# Altium footprint library pcie_power.PcbLib: 1 footprints
Each footprint in its own frame and in the unit in brackets; x right, y up, seen from the top. Pads: shape width x height; smd on the part's side, far side on the other; paste and mask are expansions set on the pad; w line width, h text height; cw(c..) or ccw(c..) is an arc to the next point about the centre after c.
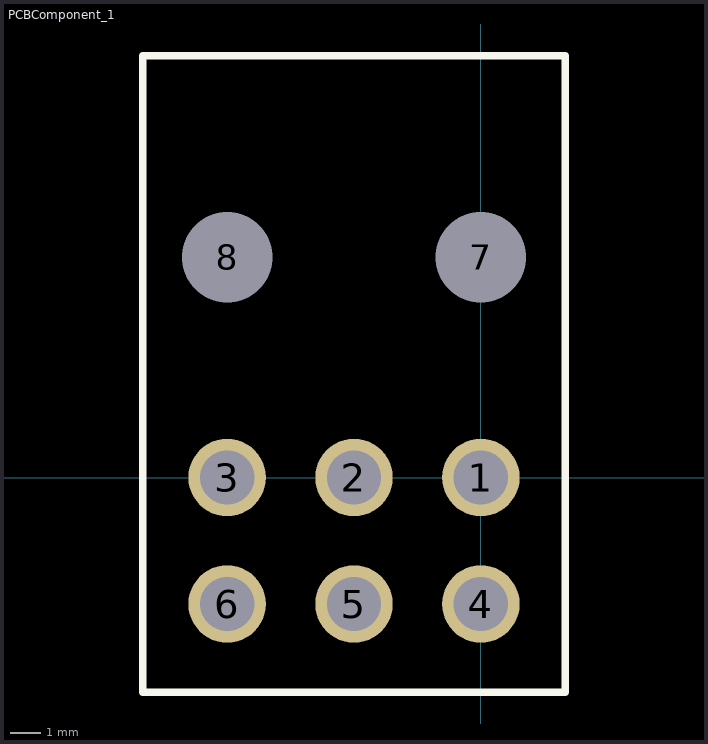
[diagram p0: the footprint, top view; thin cyan lines are the x and y axes]

## PCBComponent_1 [mil]
pads (8):
  round 101 hole 71: 1(0,0) 2(-165.5,0) 3(-331,0) 4(0,-165) 5(-165.5,-165) 6(-331,-165)
  round 60 hole 118 unplated: 7(0,287) 8(-331,287)
Top Overlay:
  lines w10: -441,-280 -441,550 110,550 110,-280 -441,-280